# EAGLE library part BQ27510 (library LiPoPSU)
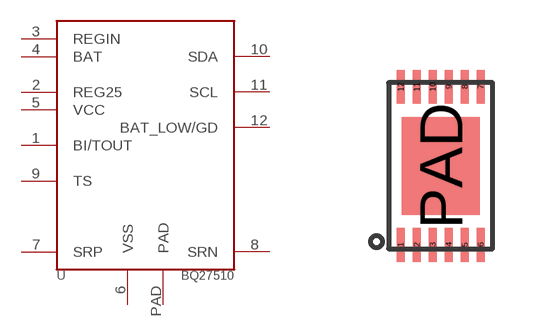
[diagram p2: symbol with the pads of DRZ(S-PDSO-N12); footprint DRZ(S-PDSO-N12)]

Designator prefix U

## BQ27510  [DRZ(S-PDSO-N12)]
1  BI/TOUT
2  REG25  pwr
3  REGIN  pwr
4  BAT  in
5  VCC  pwr
6  VSS  pwr
7  SRP  in
8  SRN  in
9  TS  in
10  SDA  oc
11  SCL  in
12  BAT_LOW/GD  oc
PAD  PAD  pwr

## Footprint DRZ(S-PDSO-N12) (pad centres in mm)
smd 0.2 x 0.85: 1 -1,-1.975; 2 -0.6,-1.975; 3 -0.2,-1.975; 4 0.2,-1.975; 5 0.6,-1.975; 6 1,-1.975; 7 1,1.975; 8 0.6,1.975; 9 0.2,1.975; 10 -0.2,1.975; 11 -0.6,1.975; 12 -1,1.975
smd 1.95 x 2.45: PAD 0,0